# EAGLE library part EG2209 (library EG2209)
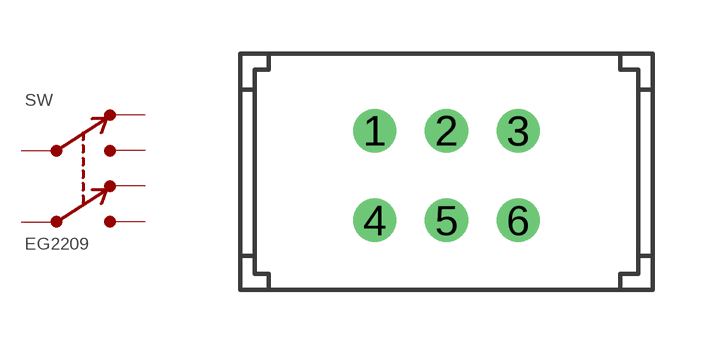
[diagram p0: symbol with the pads of EG2209; footprint EG2209]

Designator prefix SW

## EG2209 (Availability: Unavailable; Description: EG Series DPDT On-On Vertical Through Hole Slide Switch; MF: E-Switch; MP: EG2209; Package: None; Price: None)  [EG2209]
1  A1  pas
2  C1  pas
3  B1  pas
4  B2  pas
5  C2  pas
6  A2  pas

## Footprint EG2209 (pad centres in mm)
drill 0.7: 1 0,0; 2 2,0; 3 4,0; 4 0,-2.5; 5 2,-2.5; 6 4,-2.5